# Altium footprint library YaoPCB.PCBLIB: 415 footprints (part 2 of 26)
Each footprint in its own frame and in the unit in brackets; x right, y up, seen from the top. Pads: shape width x height; smd on the part's side, far side on the other; paste and mask are expansions set on the pad; w line width, h text height; cw(c..) or ccw(c..) is an arc to the next point about the centre after c.
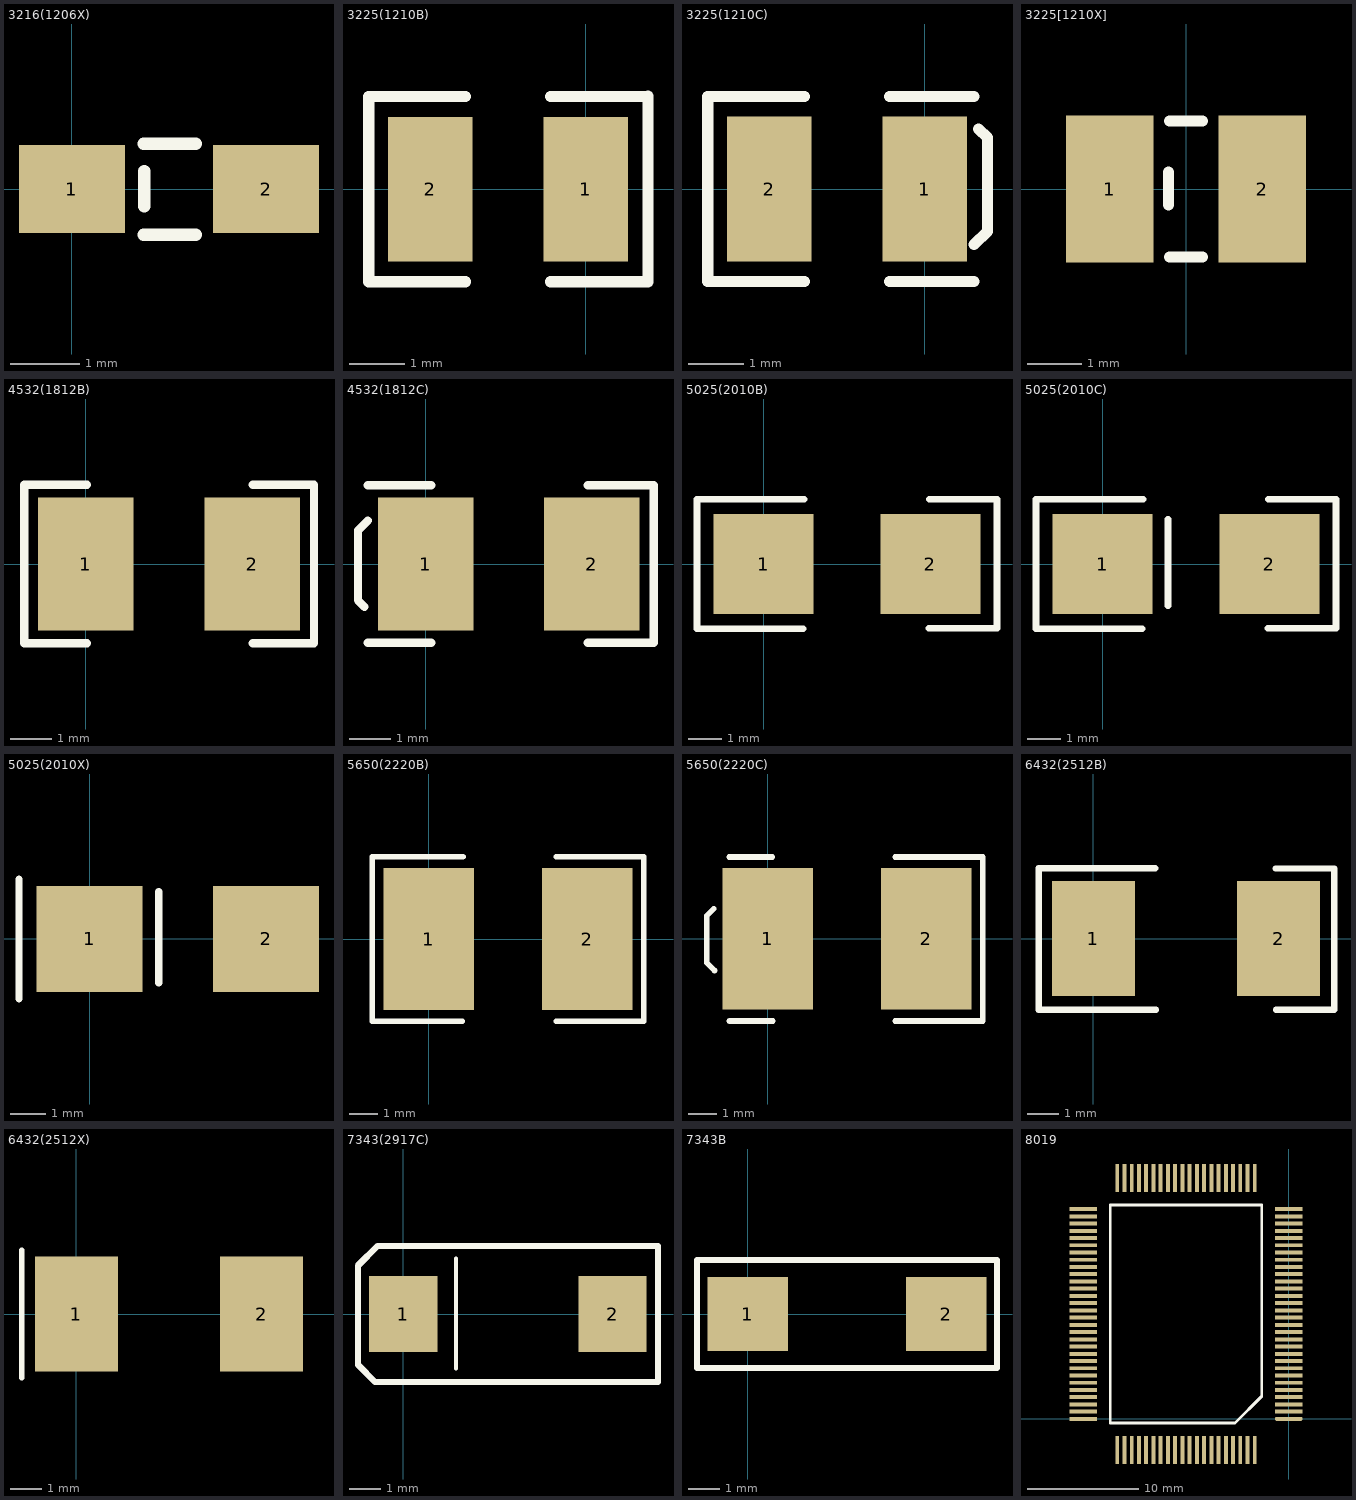
[diagram p1: the footprints below, top view; thin cyan lines are the x and y axes]

## 3216(1206X) [mil]
pads (2):
  rect 60x50 smd: 1(0,0) 2(110,0)
TopOverlay:
  lines w7: 40.55,-25.98 70.08,-25.98 ; 40.55,25.59 70.08,25.59 ; 40.94,-9.84 40.94,10.24

## 3225(1210B) [mil]
pads (2):
  rect 60x102.36 smd: 1(0,0) 2(-110,0)
TopOverlay:
  lines w7.87: -85,-65.55 -153.54,-65.55 -153.54,65.55 -85,65.55 ; -25,-65.55 44.09,-65.55 44.09,65.75 ; -25,65.55 44.09,65.55

## 3225(1210C) [mil]
pads (2):
  rect 60x102.36 smd: 1(0,0) 2(-110,0)
TopOverlay:
  lines w7.87: -85,-65.55 -153.54,-65.55 -153.54,65.55 -85,65.55 ; -25,-65.55 35,-65.55 ; -25,65.55 35,65.55 ; 35,-39.37 44.37,-30 44.37,36.34 38.17,42.54

## 3225[1210X] [mm] "Chip Resistor; Body 3.2 x 2.5 mm (LxW typ)"
height 0.6
pads (2):
  rect 1.6x2.7 smd: 1(-1.4,0) 2(1.4,0)
TopOverlay:
  lines w0.2: -0.32,-0.29 -0.32,0.31 ; -0.3,-1.25 0.3,-1.25 ; -0.3,1.25 0.3,1.25

## 4532(1812B) [mm]
pads (2):
  rect 2.3x3.2 smd: 1(0,0) 2(4,0)
TopOverlay:
  lines w0.2: -1.47,-1.9 0.032,-1.9 ; -1.47,1.9 0.032,1.9 ; 4.009,-1.9 5.48,-1.9 5.48,1.9 4.009,1.9
  lines w0.203: -1.47,-1.9 -1.47,1.9

## 4532(1812C) [mm]
pads (2):
  rect 2.3x3.2 smd: 1(0,0) 2(4,0)
TopOverlay:
  lines w0.2: -1.472,-1.032 -1.63,-0.875 -1.63,0.81 -1.392,1.048 ; -1.392,-1.9 0.132,-1.9 ; -1.392,1.9 0.132,1.9 ; 3.909,-1.9 5.5,-1.9 5.5,1.9 3.909,1.9

## 5025(2010B) [mm]
pads (2):
  rect 3x3 smd: 1(0,0) 2(5,0)
TopOverlay:
  lines w0.2: 1.18,-1.94 -2,-1.94 -2,1.94 1.21,1.94 ; 4.96,-1.93 7,-1.93 7,1.94 4.97,1.94

## 5025(2010C) [mm]
pads (2):
  rect 3x3 smd: 1(0,0) 2(5,0)
TopOverlay:
  lines w0.2: 1.18,-1.94 -2,-1.94 -2,1.94 1.21,1.94 ; 1.96,-1.25 1.96,1.34 ; 4.96,-1.93 7,-1.93 7,1.94 4.97,1.94

## 5025(2010X) [mm]
pads (2):
  rect 3x3 smd: 1(0,0) 2(5,0)
TopOverlay:
  lines w0.2: -2,-1.7 -2,1.69 ; 1.96,-1.25 1.96,1.34

## 5650(2220B) [mm]
pads (2):
  rect 3.2x5 smd: 1(0,0) 2(5.6,0)
TopOverlay:
  lines w0.2: 1.18,-2.91 -2,-2.91 -2,2.91 1.21,2.91 ; 4.509,-2.91 7.6,-2.91 7.6,2.91 4.509,2.91

## 5650(2220C) [mm]
pads (2):
  rect 3.2x5 smd: 1(0,0) 2(5.6,0)
TopOverlay:
  lines w0.2: -1.912,1.048 -2.15,0.81 -2.15,-0.86 -1.88,-1.13 ; -1.36,2.88 0.164,2.88 ; -1.35,-2.91 0.174,-2.91 ; 4.509,-2.91 7.6,-2.91 7.6,2.88 4.509,2.88

## 6432(2512B) [mm]
pads (2):
  rect 2.6x3.6 smd: 1(0,0) 2(5.8,0)
TopOverlay:
  lines w0.2: -1.72,-2.23 1.96,-2.23 ; -1.72,2.21 1.94,2.21 ; 5.71,2.2 7.54,2.2 7.54,-2.23 5.72,-2.23
  lines w0.203: -1.72,-2.23 -1.72,2.21

## 6432(2512X) [mm]
pads (2):
  rect 2.6x3.6 smd: 1(0,0) 2(5.8,0)
TopOverlay:
  lines w0.178: -1.71,-2 -1.71,2

## 7343(2917C) [mm]
pads (2):
  rect 2.16x2.4 smd: 1(0,0) 2(6.61,0)
TopOverlay:
  lines w0.127: 1.67,-1.72 1.67,1.76
  lines w0.2: -1.43,-1.6 -1.43,1.53 -0.81,2.15 8.046,2.15 8.046,-2.15 -0.88,-2.15 -1.43,-1.6

## 7343B [mm]
pads (2):
  rect 2.6x2.4 smd: 1(0,0) 2(6.4,0)
TopOverlay:
  lines w0.2: -1.646,-1.746 8.046,-1.746 8.046,1.746 -1.646,1.746 -1.646,-1.746

## 8019 [mil]
pads (100):
  oval 98.43x14 smd: 1(0,0)
  rect 98.43x14 smd: 2(0,25.55) 3(0,51.1) 4(0,76.65) 5(0,102.2) 6(0,127.75) 7(0,153.3) 8(0,178.85) 9(0,204.4) 10(0,229.95) 11(0,255.5) 12(0,281.05) 13(0,306.6) 14(0,332.15) 15(0,357.7) 16(0,383.25) 17(0,408.8) 18(0,434.35) 19(0,459.9) 20(0,485.45) 21(0,511) 22(0,536.55) 23(0,562.1) 24(0,587.65) 25(0,613.2) 26(0,638.75) 27(0,664.3) 28(0,689.85) 29(0,715.4) 30(0,740.95) 51(-725.45,740.95) 52(-725.45,715.4) 53(-725.45,689.85) 54(-725.45,664.3) 55(-725.45,638.75) 56(-725.45,613.2) 57(-725.45,587.65) 58(-725.45,562.1) 59(-725.45,536.55) 60(-725.45,511) 61(-725.45,485.45) 62(-725.45,459.9) 63(-725.45,434.35) 64(-725.45,408.8) 65(-725.45,383.25) 66(-725.45,357.7) 67(-725.45,332.15) 68(-725.45,306.6) 69(-725.45,281.05) 70(-725.45,255.5) 71(-725.45,229.95) 72(-725.45,204.4) 73(-725.45,178.85) 74(-725.45,153.3) 75(-725.45,127.75) 76(-725.45,102.2) 77(-725.45,76.65) 78(-725.45,51.1) 79(-725.45,25.55) 80(-725.45,0)
  rect 14x98.43 smd: 31(-120,850.95) 32(-145.55,850.95) 33(-171.1,850.95) 34(-196.65,850.95) 35(-222.2,850.95) 36(-247.75,850.95) 37(-273.3,850.95) 38(-298.85,850.95) 39(-324.4,850.95) 40(-349.95,850.95) 41(-375.5,850.95) 42(-401.05,850.95) 43(-426.6,850.95) 44(-452.15,850.95) 45(-477.7,850.95) 46(-503.25,850.95) 47(-528.8,850.95) 48(-554.35,850.95) 49(-579.9,850.95) 50(-605.45,850.95) 81(-605.45,-110) 82(-579.9,-110) 83(-554.35,-110) 84(-528.8,-110) 85(-503.25,-110) 86(-477.7,-110) 87(-452.15,-110) 88(-426.6,-110) 89(-401.05,-110) 90(-375.5,-110) 91(-349.95,-110) 92(-324.4,-110) 93(-298.85,-110) 94(-273.3,-110) 95(-247.75,-110) 96(-222.2,-110) 97(-196.65,-110) 98(-171.1,-110) 99(-145.55,-110) 100(-120,-110)
TopOverlay:
  lines w10: -630.45,-15 -630.45,755.95 -95,755.95 -95,80 -190,-15 -630.45,-15